# EAGLE library part ESP8266_ESP-12 (library aqm-parts)
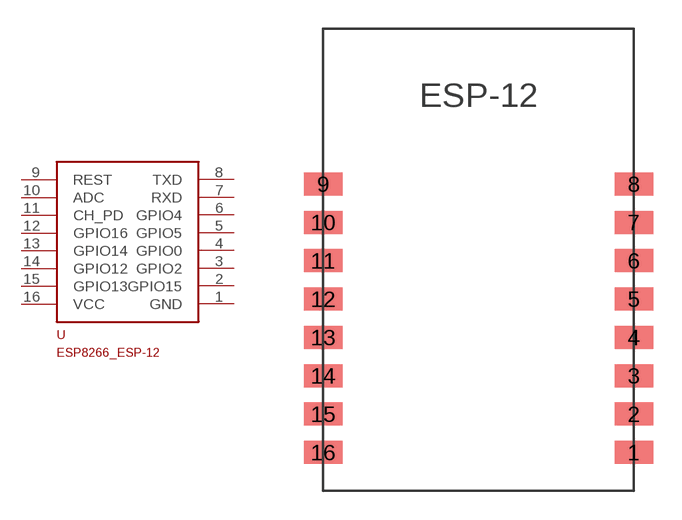
[diagram p4: symbol with the pads of ESP8266-ESP12; footprint ESP8266-ESP12]

Designator prefix -

## ESP8266_ESP-12  [ESP8266-ESP12]
1  GND
2  GPIO15
3  GPIO2
4  GPIO0
5  GPIO5
6  GPIO4
7  RXD
8  TXD
9  REST
10  ADC
11  CH_PD
12  GPIO16
13  GPIO14
14  GPIO12
15  GPIO13
16  VCC

## Footprint ESP8266-ESP12 (pad centres in mm)
smd 2 x 1.2: 1 16.2,2; 2 16.2,4; 3 16.2,6; 4 16.2,8; 5 16.2,10; 6 16.2,12; 7 16.2,14; 8 16.2,16; 9 0,16; 10 0,14; 11 0,12; 12 0,10; 13 0,8; 14 0,6; 15 0,4; 16 0,2